# Altium footprint library PCB_ActiveDiscrete.PcbLib: 6 footprints
Each footprint in its own frame and in the unit in brackets; x right, y up, seen from the top. Pads: shape width x height; smd on the part's side, far side on the other; paste and mask are expansions set on the pad; w line width, h text height; cw(c..) or ccw(c..) is an arc to the next point about the centre after c.
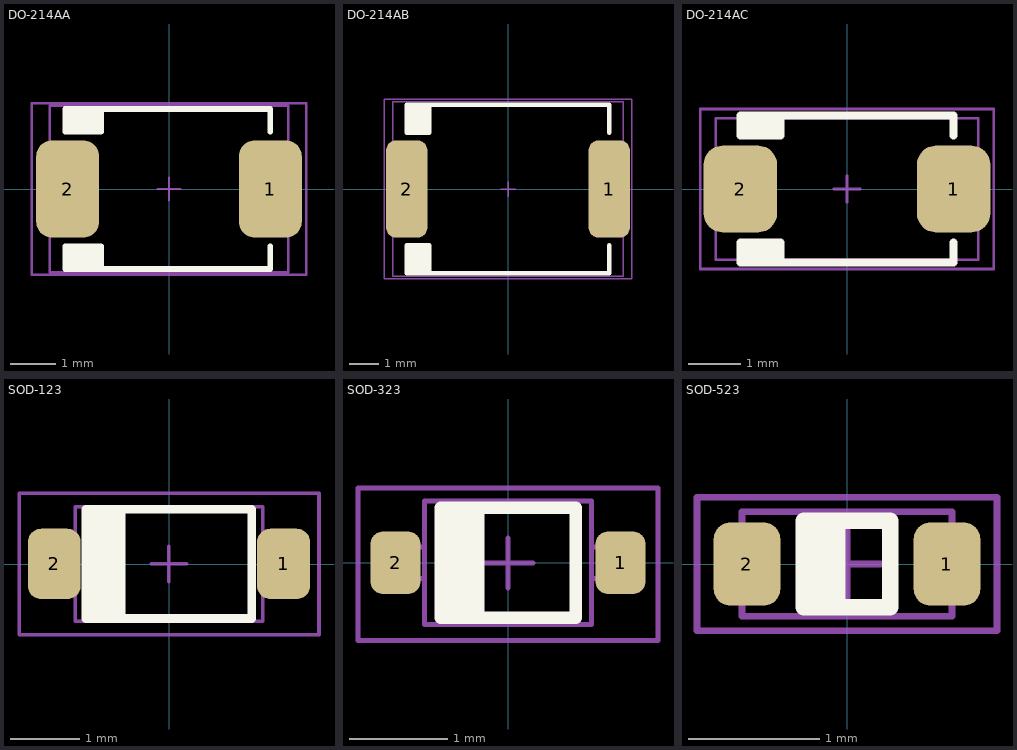
[diagram p0: the footprints below, top view; thin cyan lines are the x and y axes]

## DO-214AA [mil] "SMB"
height 104.33
pads (2):
  rrect50% 55x85 smd: 1(88.58,0) 2(-88.58,0)
Top Overlay:
  region: -59.5,-50 -59.5,-70 -90.58,-70 -90.58,-50
  region: -59.5,50 -59.5,70 -90.58,70 -90.58,50
  lines w5: -59.5,-70 -59.5,-50 -90.58,-50 -90.58,-70 88.58,-70 88.58,-50 ; -59.5,70 -59.5,50 -90.58,50 -90.58,70 88.58,70 88.58,50
Mechanical 13:
  lines w2: -10,0 10,0 ; 0,-10 0,10 ; -104.33,-72.84 104.33,-72.84 104.33,72.84 -104.33,72.84 -104.33,-72.84
T-Component:
  lines w2: -120,-75 120,-75 120,75 -120,75 -120,-75
  text ".Designator" at -248.55,-21.56 h100
3D body "User Library-DO-214AA_SMB.STEP": height 86.65, standoff -1.97, extent -104.33,-72.84 104.33,72.84

## DO-214AB [mil] "SMC"
height 98.43
pads (2):
  rrect50% 55x130 smd: 1(135,0) 2(-135,0)
Top Overlay:
  region: -105,-74.8 -135,-74.8 -135,-112.05 -105,-112.05
  region: -105,112.05 -135,112.05 -135,74.8 -105,74.8
  lines w6: -105,-112.05 -105,-74.8 -135,-74.8 -135,-112.05 135,-112.05 135,-74.8 ; -105,112.05 -105,74.8 -135,74.8 -135,112.05 135,112.05 135,75
Mechanical 13:
  lines w2: -10,0 10,0 ; 0,-10 0,10 ; -153.54,-116.14 153.54,-116.14 153.54,116.14 -153.54,116.14 -153.54,-116.14
T-Component:
  lines w2: -165,-120 165,-120 165,120 -165,120 -165,-120
  text ".Designator" at -248.55,-21.56 h100
3D body "User Library-DO-214AB-SMC.STEP": height 94.53, standoff -1.97, extent -153.54,-116.14 153.54,116.14

## DO-214AC [mil] "SMA"
pads (2):
  rrect50% 55x65 smd: 1(80,0) 2(-80,0)
Top Overlay:
  region: -50,-40 -50,-55 -80,-55 -80,-40
  region: -50,40 -50,55 -80,55 -80,40
  lines w6: -50,-55 -50,-40 -80,-40 -80,-55 80,-55 80,-40 ; -50,55 -50,40 -80,40 -80,55 80,55 80,40
Mechanical 13:
  lines w2: -9.99,0.01 10.01,0.01 ; 0.01,-9.99 0.01,10.01 ; -98.41,-53.14 -98.41,53.16 98.44,53.16 98.44,-53.14 -98.41,-53.14
T-Component:
  lines w2: -110,-60 -110,60 110,60 110,-60 -110,-60
  text ".Designator" at -248.55,-21.56 h100
3D body "User Library-DO-214AC_SMA.STEP": height 84.69, standoff -1.97, extent -98.41,-53.14 98.44,53.16

## SOD-123 [mil]
height 45.28
pads (2):
  rrect50% 30x40 smd: 1(64.91,0.05) 2(-65.09,0.05)
Top Overlay:
  region: -47.1,-30.96 -47.1,31.04 -27.1,31.04 -27.1,-30.96
  lines w5: -27.1,-30.96 -27.1,31.04 ; -47.1,-30.96 -47.1,31.04 46.9,31.04 46.9,-30.96 -47.1,-30.96
Mechanical 13:
  region: -72.53,11.86 -62.68,11.86 -62.68,-11.76 -72.53,-11.76
  region: 62.51,11.86 72.35,11.86 72.35,-11.76 62.51,-11.76
  lines w2: -53.24,-11.76 -62.68,-11.76 ; -53.24,11.86 -62.68,11.86 ; -10.09,0.05 9.91,0.05 ; -0.09,-9.95 -0.09,10.05 ; 53.06,-11.76 62.51,-11.76 ; 53.06,11.86 62.51,11.86 ; -62.68,-11.76 -62.68,11.86 ; -62.68,-11.76 -72.53,-11.76 -72.53,11.86 -62.68,11.86 ; 62.51,-11.76 62.51,11.86 ; 62.51,-11.76 72.35,-11.76 72.35,11.86 62.51,11.86 ; -53.24,-32.43 -53.24,32.53 53.06,32.53 53.06,-32.43 -53.24,-32.43
T-Component:
  lines w2: -85,-40 -85,40 85,40 85,-40 -85,-40
  text ".Designator" at -198.65,-17.24 h80
3D body "User Library-SOD123-1.STEP": height 46.46, standoff 0, extent -76.86,-35.39 76.68,35.48

## SOD-323 [mil]
height 45.28
pads (2):
  rrect50% 20x25 smd: 1(45,0) 2(-45,0)
Top Overlay:
  region: -12,-22 -27,-22 -27,22 -12,22
  lines w5: -12,-22 -12,22 ; -27,-22 27,-22 27,22 -27,22 -27,-22
Mechanical 13:
  region: 41.34,6.3 49.21,6.3 49.21,-6.3 41.34,-6.3
  region: -49.21,6.3 -41.34,6.3 -41.34,-6.3 -49.21,-6.3
  lines w2: -33.46,-6.3 -41.34,-6.3 ; -33.46,6.3 -41.34,6.3 ; -10,0 10,0 ; 0,-10 0,10 ; 33.46,-6.3 41.34,-6.3 ; 33.46,6.3 41.34,6.3 ; -41.34,-6.3 -41.34,6.3 ; -41.34,-6.3 -49.21,-6.3 -49.21,6.3 -41.34,6.3 ; 41.34,-6.3 41.34,6.3 ; 41.34,-6.3 49.21,-6.3 49.21,6.3 41.34,6.3 ; -33.46,-24.61 33.46,-24.61 33.46,24.61 -33.46,24.61 -33.46,-24.61
T-Component:
  lines w2: -60,-31 60,-31 60,30 -60,30 -60,-31
  text ".Designator" at -198.65,-17.24 h80
3D body "SOD323.STEP": height 43.31, standoff 0, extent -51.18,-26.58 51.18,26.58

## SOD-523 [mil]
height 45.28
pads (2):
  rrect50% 20x25 smd: 1(30,0) 2(-30,0)
Top Overlay:
  region: -3,-13 -13,-13 -13,13 -3,13
  lines w5: -3,-13 -3,13 ; -13,-13 13,-13 13,13 -13,13 -13,-13
Mechanical 13:
  lines w2: -10,0 10,0 ; 0,-10 0,10 ; -31.5,-15.7 -31.5,15.7 31.5,15.7 31.5,-15.7 -31.5,-15.7
T-Component:
  lines w2: -45,-20 45,-20 45,20 -45,20 -45,-20
  text ".Designator" at -148.76,-12.91 h60
3D body "User Library-SOD-523F.STEP": height 27.56, standoff 0, extent -31.5,-15.7 31.5,15.7